# EAGLE library part 87758-0616 (library con-molex)
6 Pin - 2mm Dual Row Single Wafer, Vertical T/H HDR Source: http://www.molex.com/pdm_docs/sd/877580616_sd.pdf
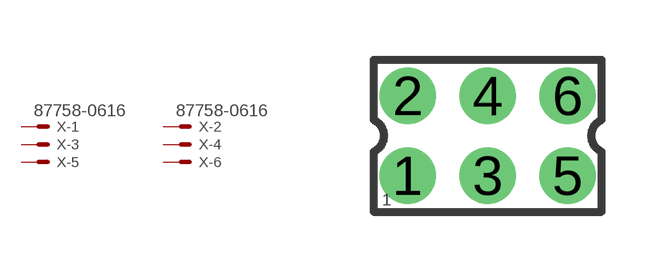
[diagram p206: symbol with the pads of 87758-0616; footprint 87758-0616]

Designator prefix X; gates -1=MV -2=MV -3=M -4=M -5=M -6=M

## 87758-0616 (MPN: 87758-0616; OC_FARNELL: 7472323; OC_NEWARK: 25M5667)  [87758-0616]
1  -1:S  pas
2  -2:S  pas
3  -3:S  pas
4  -4:S  pas
5  -5:S  pas
6  -6:S  pas

## Footprint 87758-0616 (pad centres in mm)
6 Pin - 2mm Dual Row Single Wafer, Vertical T/H HDR Source: http://www.molex.com/pdm_docs/sd/877580616_sd.pdf
drill 0.9 pad 1.27: 1 -2,-1; 2 -2,1; 3 0,-1; 4 0,1; 5 2,-1; 6 2,1